# EAGLE library part QH8KA4 (library rohm)
30V Nch+Nch Middle Power MOSFET
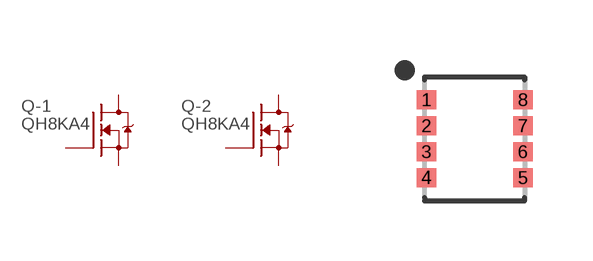
[diagram p0: symbol with the pads of TSMT8; footprint TSMT8]

Designator prefix Q; gates -1=N-MOSFET-GDS-D -2=N-MOSFET-GDS-D

## QH8KA4 (FARNELL: 2706591)  [TSMT8]
1  -1:S  pas
2  -1:G  pas
3  -2:S  pas
4  -2:G  pas
5  -2:D  pas
6  -2:D  pas
7  -1:D  pas
8  -1:D  pas

## Footprint TSMT8 (pad centres in mm)
smd 0.49 x 0.47: 1 -1.205,0.975; 2 -1.205,0.325; 3 -1.205,-0.325; 5 1.205,-0.975; 6 1.205,-0.325; 7 1.205,0.325; 8 1.205,0.975
smd 0.49 x 0.478: 4 -1.205,-0.975